# Altium schematic symbol library mous.SCHLIB: 3 symbols
Pins are listed as number, name and electrical type; pins without a type are passive.

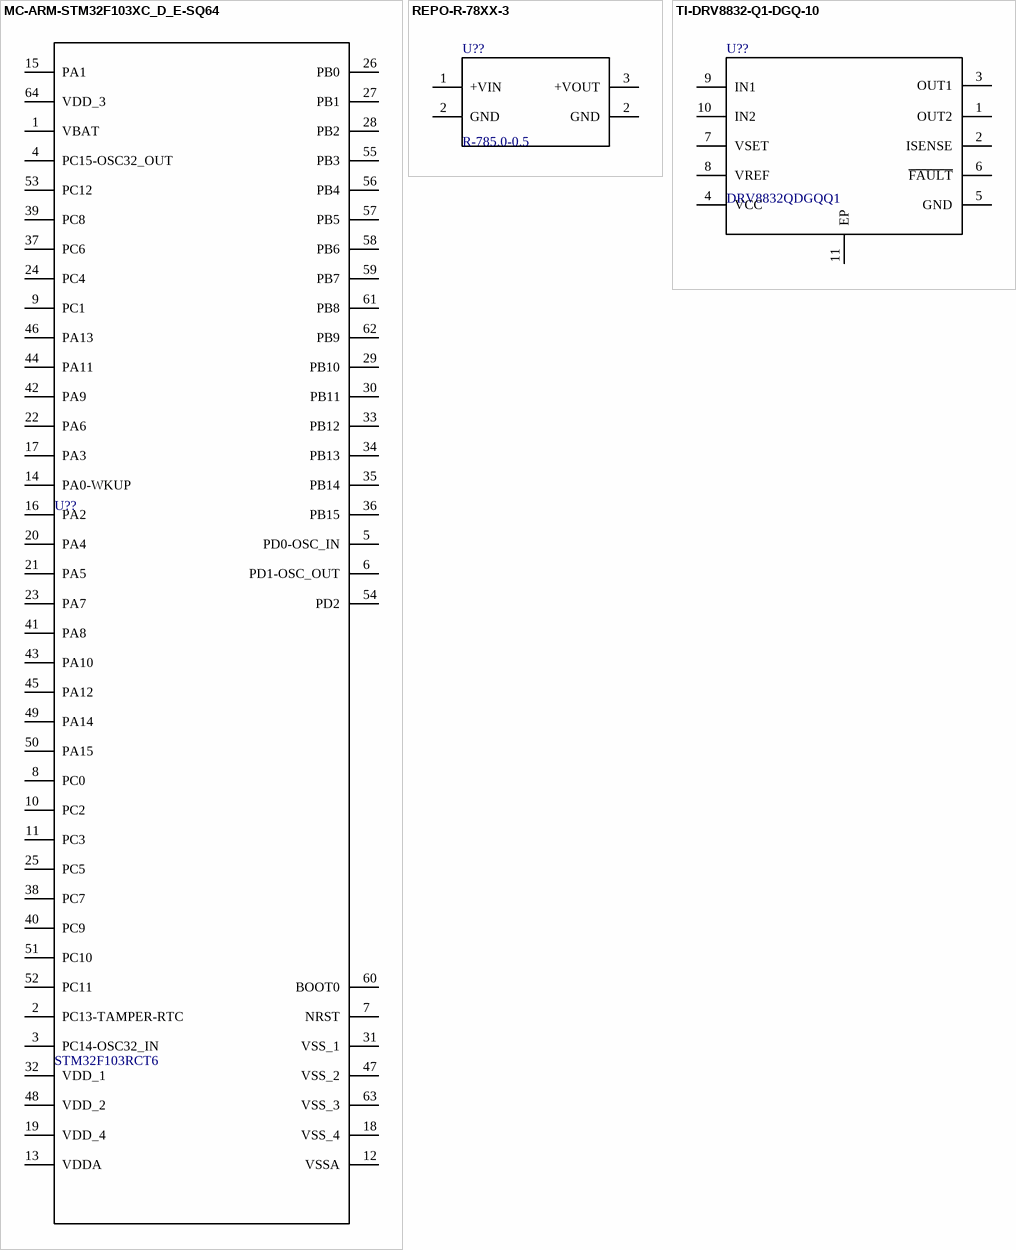
[diagram p0: symbols MC-ARM-STM32F103XC_D_E-SQ64 to TI-DRV8832-Q1-DGQ-10]

## MC-ARM-STM32F103XC_D_E-SQ64
designator U??, comment STM32F103RCT6
ARM Cortex-M3 32-bit MCU, 256 KB Flash, 48 KB Internal RAM, 51 I/Os, 64-pin LQFP, -40 to 85 degC, Tray; I/Os (High Current): 51; Supply Voltage(Vcc) min (V): 2; Operating Frequency(F) (Processor speed) (MHz): 72; D/A Converter: 2x12-bit (2 Channel); Internal RAM Size (kB): 48; FLASH Size (Prog) (kB): 256; A/D Converter: 3x12-bit (16 Channel); Mounting Technology: Surface Mount; ComponentLink2URL: http://www.st.com/st-web-ui/static/active/en/resource/technical/document/datasheet/CD00191185.pdf; ComponentLink1Description: Manufacturer URL; ComponentLink1URL: http://www.st.com/web/en/home.html; Packing: Tray; ComponentLink3URL: http://www.st.com/st-web-ui/static/active/en/resource/technical/document/datasheet/DM00037051.pdf; ComponentLink2Description: Datasheet; Core: ARM Cortex-M3; DatasheetVersion: Rev. 8; PackageReference: LQFP64; ComponentLink3Description: Package Specification; PackageVersion: Rev. 4, 06/2013; PackageDescription: 64-Pin Low Profile Quad Flat Package, 10 x 10 mm Body, 0.5 mm Pitch; PartNumber: STM32F103RCT6
footprint STM-LQFP64_M (Thin QFP, 64-Leads, Body 10x10mm, Pitch 0.5mm, IPC Low Density)
footprint STM-LQFP64_L (Thin QFP, 64-Leads, Body 10x10mm, Pitch 0.5mm, IPC High Density)
footprint STM-LQFP64_V (Thin QFP, 64-Leads, Body 10x10mm, Pitch 0.5mm, ST Recommended)
footprint STM-LQFP64_N (Thin QFP, 64-Leads, Body 10x10mm, Pitch 0.5mm, IPC Medium Density)
pins: 1 VBAT (power), 2 PC13-TAMPER-RTC (power) "PC13-TAMPER-RTC/PC13/TAMPER-RTC", 3 PC14-OSC32_IN (power) "PC14-OSC32_IN/PC14/OSC32_IN", 4 PC15-OSC32_OUT (power) "PC15-OSC32_OUT/PC15/OSC32_OUT", 5 PD0-OSC_IN (power) "PD0/OSC_IN/CAN_RX", 6 PD1-OSC_OUT (power) "PD1/OSC_OUT/CAN_TX", 7 NRST (power), 8 PC0 (power) "PC0/ADC123_IN10", 9 PC1 (power) "PC1/ADC123_IN11", 10 PC2 (power) "PC2/ADC123_IN12", 11 PC3 (power) "PC3/ADC123_IN13", 12 VSSA (power), 13 VDDA (power), 14 PA0-WKUP (power) "PA0-WKUP/PA0/WKUP/USART2_CTS/ADC123_IN0/TIM2_CH1_ETR/TIM5_CH1/TIM8_ETR", 15 PA1 (power) "PA1/USART2_RTS/ADC123_IN1/TIM5_CH2/TIM2_CH2", 16 PA2 (power) "PA2/USART2_TX/TIM5_CH3/ADC123_IN2/TIM2_CH3", 17 PA3 (power) "PA3/USART2_RX/TIM5_CH4/ADC123_IN3/TIM2_CH4", 18 VSS_4 (power), 19 VDD_4 (power), 20 PA4 (power) "PA4/SPI1_NSS/USART2_CK/DAC_OUT1/ADC12_IN4", 21 PA5 (power) "PA5/SPI1_SCK/DAC_OUT2/ADC12_IN5", 22 PA6 (power) "PA6/SPI1_MISO/TIM8_BKIN/ADC12_IN6/TIM3_CH1/TIM1_BKIN", 23 PA7 (power) "PA7/SPI1_MOSI/TIM8_CH1N/ADC12_IN7/TIM3_CH2/TIM1_CH1N", 24 PC4 (power) "PC4/ADC12_IN14", 25 PC5 (power) "PC5/ADC12_IN15", 26 PB0 (power) "PB0/ADC12_IN8/TIM3_CH3/TIM8_CH2N/TIM1_CH2N", 27 PB1 (power) "PB1/ADC12_IN9/TIM3_CH4/TIM8_CH3N/TIM1_CH3N", 28 PB2 (power) "PB2/BOOT1", 29 PB10 (power) "PB10/I2C2_SCL/USART3_TX/TIM2_CH3", 30 PB11 (power) "PB11/I2C2_SDA/USART3_RX/TIM2_CH4", 31 VSS_1 (power), 32 VDD_1 (power), 33 PB12 (power) "PB12/SPI2_NSS/I2S2_WS/I2C2_SMBA/USART3_CK/TIM1_BKIN", 34 PB13 (power) "PB13/SPI2_SCK/I2S2_CK/USART3_CTS/TIM1_CH1N", 35 PB14 (power) "PB14/SPI2_MISO/TIM1_CH2N/USART3_RTS", 36 PB15 (power) "PB15/SPI2_MOSI/I2S2_SD/TIM1_CH3N", 37 PC6 (power) "PC6/I2S2_MCK/TIM8_CH1/SDIO_D6/TIM3_CH1", 38 PC7 (power) "PC7/I2S3_MCK/TIM8_CH2/SDIO_D7/TIM3_CH2", 39 PC8 (power) "PC8/TIM8_CH3/SDIO_D0/TIM3_CH3", 40 PC9 (power) "PC9/TIM8_CH4/SDIO_D1/TIM3_CH4", 41 PA8 (power) "PA8/USART1_CK/TIM1_CH1/MCO", 42 PA9 (power) "PA9/USART1_TX/TIM1_CH2", 43 PA10 (power) "PA10/USART1_RX/TIM1_CH3", 44 PA11 (power) "PA11/USART1_CTS/USBDM/CAN_RX/TIM1_CH4", 45 PA12 (power) "PA12/USART1_RTS/USBDP/CAN_TX/TIM1_ETR", 46 PA13 (power) "PA13/JTMS-SWDIO", 47 VSS_2 (power), 48 VDD_2 (power), 49 PA14 (power) "PA14/JTCK-SWCLK", 50 PA15 (power) "PA15/JTDI/SPI3_NSS/I2S3_WS/TIM2_CH1_ETR/SPI1_NSS", 51 PC10 (power) "PC10/UART4_TX/SDIO_D2/USART3_TX", 52 PC11 (power) "PC11/UART4_RX/SDIO_D3/USART3_RX", 53 PC12 (power) "PC12/UART5_TX/SDIO_CK/USART3_CK", 54 PD2 (power) "PD2/TIM3_ETR/UART5_RX/SDIO_CMD", 55 PB3 (power) "PB3/JTDO/SPI3_SCK/I2S3_CK/TRACESWO/TIM2_CH2/SPI1_SCK", 56 PB4 (power) "PB4/NJTRST/SPI3_MISO/TIM3_CH1/SPI1_MISO", 57 PB5 (power) "PB5/I2C1_SMBA/SPI3_MOSI/I2S3_SD/TIM3_CH2/SPI1_MOSI", 58 PB6 (power) "PB6/I2C1_SCL/TIM4_CH1/USART1_TX", 59 PB7 (power) "PB7/I2C1_SDA/TIM4_CH2/USART1_RX", 60 BOOT0 (power), 61 PB8 (power) "PB8/TIM4_CH3/SDIO_D4/I2C1_SCL/CAN_RX", 62 PB9 (power) "PB9/TIM4_CH4/SDIO_D5/I2C1_SDA/CAN_TX", 63 VSS_3 (power), 64 VDD_3 (power)

## REPO-R-78XX-3
designator U??, comment R-785.0-0.5
DC/DC-Converter, 5 V Single Output, 500 mA, -40 to 85 degC, 3-Pin THD, RoHS, Tube; Manufacturer: Recom Power; Input Voltage: 6.5to34V; Output Voltage: 5V; Form Factor: 11.5x7.6x14.3mm; Isolation: NonIsolated; Datasheet Version: Mar-06; Datasheet URL: https://datasheet.ciiva.com/29153/154483-da-01-en-dc-dc-wandler-innoline-r-785-0-0-5-sip3-29153550.pdf; Manufacturer URL: http://www.recom-power.com/us/americas/home.html; No of Outputs: Single; Type: Encapsulated
footprint REPO-R-78XX-3_V (Module, 3-Leads, Body 11.5x7.55mm, Pitch 2.54mm)
pins: 1 +VIN (power), 2 GND (power), 2 GND (power), 3 +VOUT (power)

## TI-DRV8832-Q1-DGQ-10
designator U??, comment DRV8832QDGQQ1
Low-Voltage Motor Driver IC / , 2.75 to 6.8 V, -40 to 125 degC, 10-Pin MSOP (DGQ), RoHS, Tube; Generic Part Number: DRV8832-Q1; Supply Voltage Min: 2.75 V; Supply Voltage Max: 6.8 V; ComponentLink2URL: http://www.ti.com/lit/ds/symlink/drv8832-q1.pdf; Mounting Technology: Surface Mount; Code_JEDEC: MO-187; DatasheetVersion: SLVSBW9C; RoHS: TRUE; PackageVersion: 4073273/F, 11/2011; ComponentLink1Description: Manufacturer URL; ComponentLink3URL: http://www.ti.com/litv/pdf/mpds043e; Temperature Min: -40 degC; ComponentLink2Description: Datasheet; ComponentLink3Description: Package Specification; PartNumber: DRV8832QDGQQ1; Packing: Tube; Temperature Max: 125 degC; ComponentLink1URL: http://www.ti.com/; PackageDescription: 10-Pin Plastic Small Outline, Body 3 x 3 mm, Pitch 0.5 mm
footprint DGQ0010E_N (TSOP, 10-Leads, Body 3.1x3.1mm, Pitch 0.5mm, Thermal Pad 2.1x1.83mm, IPC Medium Density)
footprint DGQ0010E_L (TSOP, 10-Leads, Body 3.1x3.1mm, Pitch 0.5mm, Thermal Pad 2.1x1.83mm, IPC High Density)
footprint DGQ0010E_M (TSOP, 10-Leads, Body 3.1x3.1mm, Pitch 0.5mm, Thermal Pad 2.1x1.83mm, IPC Low Density)
pins: 1 OUT2 (hiz) "Bridge output 2", 2 ISENSE "Current sense resistor", 3 OUT1 (hiz) "Bridge output 1", 4 VCC (power) "Device and motor supply", 5 GND (power) "Device ground", 6 ~{FAULT} (oc) "Fault output", 7 VSET (power) "Voltage set input", 8 VREF (power) "Reference voltage output", 9 IN1 (power) "Bridge A input 1", 10 IN2 (power) "Bridge A input 2", 11 EP (power) "Device ground"